# Altium schematic symbol library infineon-mosfet.SchLib: 3 symbols
Pins are listed as number, name and electrical type; pins without a type are passive.

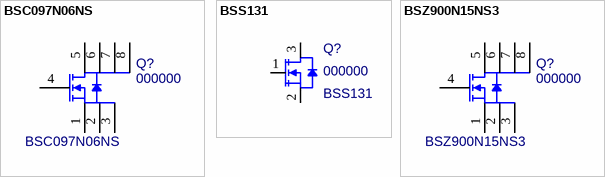
[diagram p0: symbols BSC097N06NS to BSZ900N15NS3]

## BSC097N06NS
designator Q?, comment 000000  value BSC097N06NS
N-Channel MOSFET 60V 46A; MF PN: BSC097N06NSATMA1; MF: Infineon; PN: 000000; Package: 8-PowerTDFN; ExtraInfo: *; Price: 0.35640; Digi-Key PN: BSC097N06NSATMA1CT-ND
footprint SuperSO8 (8-Leads, Body 5.0x6.0mm (max), Pitch 1.27mm, IPC Medium Density)
pins: 1 S, 2 S, 3 S, 4 G, 5 D, 6 D, 7 D, 8 D

## BSS131
designator Q?, comment 000000  value BSS131
N-Channel MOSFET 240V 110mA; MF-PN: BSS131H6327XTSA1; MF: Infineon; PN: 000000; Package: SOT-23; ExtraInfo: *; Price: 0.06996; Digi-Key PN: BSS131H6327XTSA1CT-ND
footprint SOT-23-M (SOT23, 3-Leads, Body 3.0x2.8mm (max), Pitch 0.95mm, Medium Density)
footprint SOT-23-HV (SOT23, 3-Leads, Body 3.0x2.8mm (max), Pitch 0.95mm, IPC High Density)
pins: 1 G, 2 S, 3 D

## BSZ900N15NS3
designator Q?, comment 000000  value BSZ900N15NS3
N-Channel MOSFET 150V 13A 90mOhm; PN: 000000; Package: 8-PowerTFDN; ExtraInfo: *
footprint PG-TSDSON-8 (8-Leads, Body 3.3x3.3mm (max), Pitch 0.65mm, IPC Medium Density)
pins: 1 S, 2 S, 3 S, 4 G, 5 D, 6 D, 7 D, 8 D